# Altium footprint library capsmd.PcbLib: 33 footprints (part 1 of 3)
Each footprint in its own frame and in the unit in brackets; x right, y up, seen from the top. Pads: shape width x height; smd on the part's side, far side on the other; paste and mask are expansions set on the pad; w line width, h text height; cw(c..) or ccw(c..) is an arc to the next point about the centre after c.
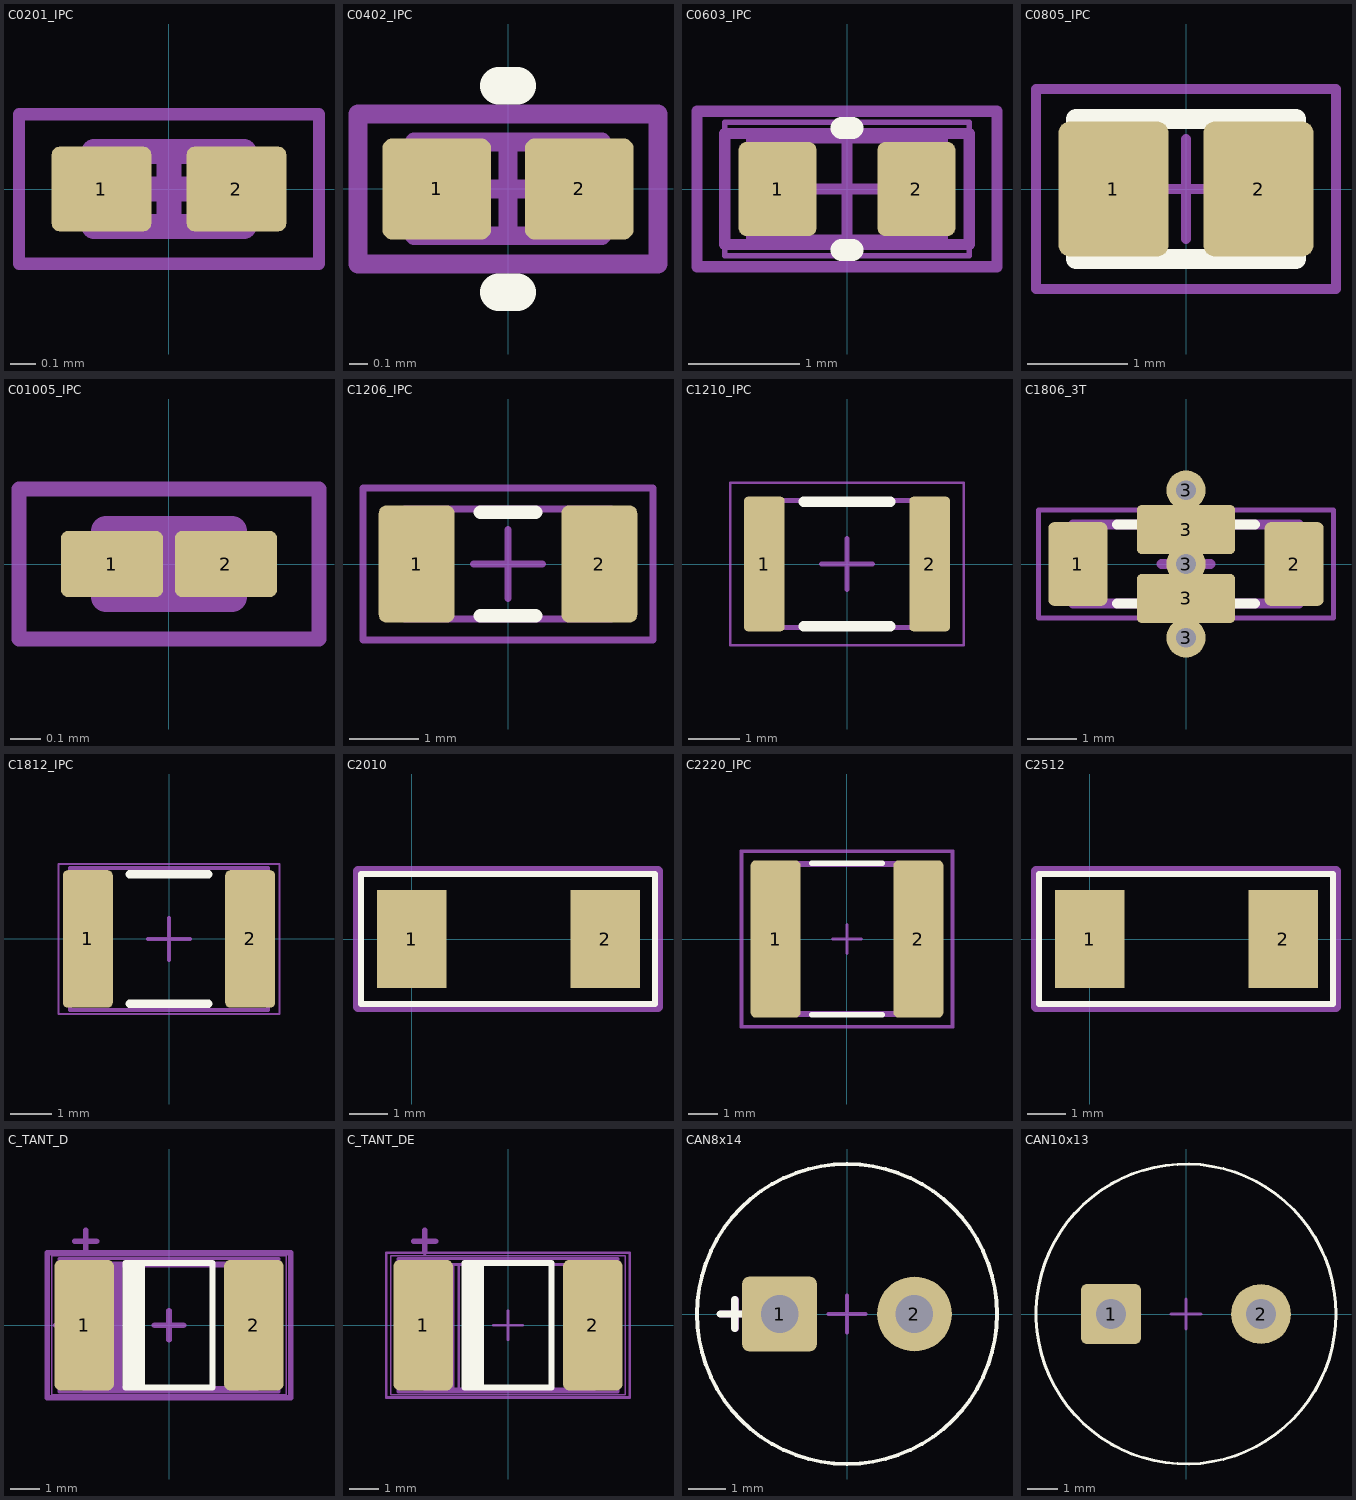
[diagram p0: the footprints below, top view; thin cyan lines are the x and y axes]

## C0201_IPC [mm] "Chip Capacitor, IPC High Density"
height 0.33
pads (2):
  rrect20% 0.4x0.34 smd mask+0.025: 1(-0.27,0) 2(0.27,0)
Mechanical 13:
  lines w0.1: -0.3,-0.15 0.3,-0.15 0.3,0.15 -0.3,0.15 -0.3,-0.15
Mechanical 15:
  lines w0.05: -0.6,-0.3 0.6,-0.3 0.6,0.3 -0.6,0.3 -0.6,-0.3
  lines w0.1: -0.15,0 0.15,0 ; 0,-0.15 0,0.15
3D body: height 0.33, standoff 0, extent 0.15,-0.15 0.3,0.15
3D body: height 0.33, standoff 0, extent -0.3,-0.15 -0.15,0.15
3D body: height 0.33, standoff 0, extent -0.15,-0.15 0.15,0.15

## C0402_IPC [mm] "Chip Capacitor, IPC High Density"
height 0.6
pads (2):
  rrect20% 0.58x0.54 smd mask+0.025: 1(-0.38,0) 2(0.38,0)
Top Overlay:
  lines w0.2: -0.05,-0.55 0.05,-0.55 ; -0.05,0.55 0.05,0.55
M3_comm_top:
  text ".comment" at -0.375,-0.275 h1
M5_asm_top:
  lines w0.1: -0.5,-0.25 0.5,-0.25 0.5,0.25 -0.5,0.25 -0.5,-0.25
  text ".Designator" at -0.5,0.5 h1
M7_courtyard_top:
  lines w0.1: -0.25,0 0.25,0 ; 0,-0.25 0,0.25 ; -0.8,-0.4 0.8,-0.4 0.8,0.4 -0.8,0.4 -0.8,-0.4
Mechanical 13:
  lines w0.1: -0.5,-0.25 -0.5,0.25 0.5,0.25 0.5,-0.25 -0.5,-0.25
Mechanical 15:
  lines w0.05: -0.8,-0.4 -0.8,0.4 0.8,0.4 0.8,-0.4 -0.8,-0.4
  lines w0.1: -0.25,0 0.25,0 ; 0,-0.25 0,0.25
3D body "Capacitor 0402.step": height 0.5, standoff 0, extent -0.5,-0.25 0.5,0.25

## C0603_IPC [mm] "IPC High Density"
height 0.92
pads (2):
  rrect20% 0.7x0.85 smd mask+0.05: 1(-0.625,0) 2(0.625,0)
Top Overlay:
  lines w0.2: -0.05,-0.55 0.05,-0.55 ; -0.05,0.55 0.05,0.55
M3_comm_top:
  text ".comment" at -0.9,-0.3 h1
M5_asm_top:
  lines w0.1: -1.1,-0.5 1.1,-0.5 1.1,0.5 -1.1,0.5 -1.1,-0.5
  text ".Designator" at -1,1.3 h1
M7_courtyard_top:
  lines w0.1: -0.5,0 0.5,0 ; 0,-0.5 0,0.5 ; -1.35,-0.7 1.35,-0.7 1.35,0.7 -1.35,0.7 -1.35,-0.7
Mechanical 13:
  lines w0.1: -0.86,-0.46 0.86,-0.46 0.86,0.46 -0.86,0.46 -0.86,-0.46
Mechanical 15:
  lines w0.05: -1.1,-0.6 1.1,-0.6 1.1,0.6 -1.1,0.6 -1.1,-0.6
  lines w0.1: -0.46,0 0.46,0 ; 0,-0.46 0,0.46
3D body "CAPC1608.STEP": height 0.9, standoff 0, extent -0.8,-0.4 0.8,0.4

## C0805_IPC [mm] "IPC High Density"
height 1.45
pads (2):
  rrect20% 1.1x1.35 smd mask+0.05: 1(-0.725,0) 2(0.725,0)
Top Overlay:
  lines w0.2: -1.1,-0.7 1.1,-0.7 1.1,0.7 -1.1,0.7 -1.1,-0.7
M3_comm_top:
  text ".comment" at -0.9,-0.3 h1
M5_asm_top:
  lines w0.1: -1.1,-0.7 -1.1,0.7 1.1,0.7 1.1,-0.7 -1.1,-0.7
  text ".Designator" at -0.975,1.15 h1
M7_courtyard_top:
  lines w0.1: -0.5,0 0.5,0 ; 0,-0.5 0,0.5 ; -1.5,-1 -1.5,1 1.5,1 1.5,-1 -1.5,-1
Mechanical 13:
  lines w0.1: -1.1,-0.725 1.1,-0.725 1.1,0.725 -1.1,0.725 -1.1,-0.725
3D body "User Library-0805 SMD Capacitor.step": height 0.78, standoff 0, extent -1,-0.625 1,0.625

## C01005_IPC [mm] "Chip Capacitor, IPC High Density"
height 0.15
pads (2):
  rrect20% 0.34x0.22 smd: 1(-0.19,0) 2(0.19,0)
Mechanical 13:
  lines w0.1: -0.21,-0.11 -0.21,0.11 0.21,0.11 0.21,-0.11 -0.21,-0.11
Mechanical 15:
  lines w0.05: -0.5,-0.25 -0.5,0.25 0.5,0.25 0.5,-0.25 -0.5,-0.25
  lines w0.1: -0.11,0 0.11,0 ; 0,-0.11 0,0.11
3D body: height 0.15, standoff 0, extent -0.11,-0.11 0.11,0.11
3D body: height 0.15, standoff 0, extent -0.21,-0.11 -0.11,0.11
3D body: height 0.15, standoff 0, extent 0.11,-0.11 0.21,0.11

## C1206_IPC [mm] "IPC High Density"
height 1.7
pads (2):
  rrect20% 1.1x1.7 smd mask+0.05: 1(-1.325,0) 2(1.325,0)
Top Overlay:
  lines w0.2: -0.4,-0.75 0.4,-0.75 ; -0.4,0.75 0.4,0.75
M3_comm_top:
  text ".comment" at -1.1,-0.3 h1
M5_asm_top:
  lines w0.1: -1.5,-0.8 -1.5,0.8 1.5,0.8 1.5,-0.8 -1.5,-0.8
  text ".Designator" at -1,1.3 h1
M7_courtyard_top:
  lines w0.1: -0.5,0 0.5,0 ; 0,-0.5 0,0.5 ; -2.1,-1.1 2.1,-1.1 2.1,1.1 -2.1,1.1 -2.1,-1.1
3D body "User Library-1206 SMD Capacitor.step": height 1.01, standoff 0.01, extent -1.6,-0.8 1.6,0.8

## C1210_IPC [mm] "IPC Medium Density"
height 2.5
pads (2):
  rrect20% 0.8x2.65 smd mask+0.05: 1(-1.625,0) 2(1.625,0)
Top Overlay:
  lines w0.2: -0.85,-1.225 0.85,-1.225 ; -0.85,1.225 0.85,1.225
Mechanical 13:
  lines w0.1: -1.6,-1.25 -1.6,1.25 1.6,1.25 1.6,-1.25 -1.6,-1.25
Mechanical 15:
  lines w0.05: -2.3,-1.6 -2.3,1.6 2.3,1.6 2.3,-1.6 -2.3,-1.6
  lines w0.1: -0.5,0 0.5,0 ; 0,-0.5 0,0.5
3D body "C1210.step": height 2.5, standoff 0, extent -1.6,-1.25 1.6,1.25

## C1806_3T [mm] "NFM41PC155B1H3L"
height 1.7
pads (7):
  rrect20% 1.2x1.7 smd mask+0.05: 1(-2.2,0) 2(2.2,0)
  round 0.8 hole 0.4: 3(0,-1.5) 3(0,0) 3(0,1.5)
  rrect20% 2x1 smd mask+0.05: 3(0,-0.7) 3(0,0.7)
Top Overlay:
  lines w0.2: -1.4,-0.8 1.4,-0.8 ; -1.4,0.8 1.4,0.8
M3_comm_top:
  text ".comment" at -1.1,-0.3 h1
M5_asm_top:
  lines w0.2: -2.3,-0.8 -2.3,0.8 2.3,0.8 2.3,-0.8 -2.3,-0.8
  text ".Designator" at -1,1.3 h1
M7_courtyard_top:
  lines w0.1: -3,-1.1 3,-1.1 3,1.1 -3,1.1 -3,-1.1
  lines w0.2: -0.5,0 0.5,0 ; 0,-0.5 0,0.5
3D body "User Library-NFM41C-1806.step": height 1, standoff 0, extent -2.25,-0.8 2.25,0.8

## C1812_IPC [mm] "IPC High Density"
height 2.18
pads (2):
  rrect20% 1.2x3.3 smd: 1(-1.95,0) 2(1.95,0)
Top Overlay:
  lines w0.2: -0.95,-1.55 0.95,-1.55 ; -0.95,1.55 0.95,1.55
Mechanical 13:
  lines w0.1: -2.375,-1.7 2.375,-1.7 2.375,1.7 -2.375,1.7 -2.375,-1.7
Mechanical 15:
  lines w0.05: -2.65,-1.8 2.65,-1.8 2.65,1.8 -2.65,1.8 -2.65,-1.8
  lines w0.1: -0.5,0 0.5,0 ; 0,-0.5 0,0.5
3D body: height 2.18, standoff 0, extent 1.865,-1.7 2.375,1.7
3D body: height 2.18, standoff 0, extent -2.375,-1.7 -1.865,1.7
3D body: height 2.18, standoff 0, extent -1.865,-1.7 1.865,1.7

## C2010 [mil]
height 1
pads (2):
  rect 72x102 smd: 1(0,0) 2(201,0)
Top Overlay:
  lines w6: -52.5,-67.5 -52.5,67.5 252.5,67.5 252.5,-67.5 -52.5,-67.5
M1_3D_TOP:
  lines w6: -52.5,-67.5 -52.5,67.5 252.5,67.5 252.5,-67.5 -52.5,-67.5
  lines w10: -55.5,-70.5 255.5,-70.5 255.5,70.5 -55.5,70.5 -55.5,-70.5
3D body "R2010-1.step": height 21.65, standoff 0, extent 2.96,-49.6 199.81,49.61

## C2220_IPC [mm] "Chip Capacitor, IPC Medium Density"
height 2.8
pads (2):
  rrect20% 1.7x5.35 smd: 1(-2.425,0) 2(2.425,0)
Top Overlay:
  lines w0.2: -1.2,-2.575 1.2,-2.575 ; -1.2,2.575 1.2,2.575
M3_comm_top:
  text ".comment" at -1.1,-0.3 h1
M5_asm_top:
  lines w0.1: -2.5,-2.5 2.5,-2.5 2.5,2.5 -2.5,2.5 -2.5,-2.5
  text ".Designator" at -1.6,2.9 h1
M7_courtyard_top:
  lines w0.1: -0.5,0 0.5,0 ; 0,-0.5 0,0.5 ; -3.6,-3 -3.6,3 3.6,3 3.6,-3 -3.6,-3
Mechanical 13:
  lines w0.1: -2.85,-2.6 2.85,-2.6 2.85,2.6 -2.85,2.6 -2.85,-2.6
Mechanical 15:
  lines w0.05: -3.55,-2.95 3.55,-2.95 3.55,2.95 -3.55,2.95 -3.55,-2.95
  lines w0.1: -0.5,0 0.5,0 ; 0,-0.5 0,0.5
3D body "User Library-2220_[5650].step": height 2.05, standoff 0, extent -2.406,-2.5 2.406,2.501

## C2512 [mil]
height 1
pads (2):
  rect 72x102 smd: 1(0,0) 2(201,0)
Top Overlay:
  lines w6: -52.5,-67.5 -52.5,67.5 252.5,67.5 252.5,-67.5 -52.5,-67.5
M1_3D_TOP:
  lines w6: -52.5,-67.5 -52.5,67.5 252.5,67.5 252.5,-67.5 -52.5,-67.5
  lines w10: -55.5,-70.5 255.5,-70.5 255.5,70.5 -55.5,70.5 -55.5,-70.5
3D body "R2010-1.step": height 21.65, standoff 0, extent 2.96,-49.6 199.81,49.61

## C_TANT_D [mm] "IPC High Density"
height 4
pads (2):
  rrect20% 2.05x4.5 smd mask+0.05: 1(-2.925,0) 2(2.925,0)
Top Overlay:
  lines w0.2: -1.325,-2.15 -1.325,2.15 ; -1.125,2.15 -1.125,-2.15 -1.5,-2.15 ; -0.925,-2.15 -0.925,2.15 ; -1.5,-2.15 -1.5,-2.15 ; -1.5,-2.15 -1.5,2.15 1.5,2.15 1.5,-2.15 -1.5,-2.15
M3_comm_top:
  text ".comment" at -0.9,-0.3 h1
M5_asm_top:
  lines w0.2: -3.9,0 -3.3,0 ; -3.6,-0.3 -3.6,0.3 ; -2.7,-2.2 -2.7,2.1 ; -2.5,-2.2 -2.5,2.1 ; -2.3,-2.2 -2.3,2.1 ; -2.1,-2.2 -2.1,2.1 ; -1.9,-2.2 -1.9,2.1 ; -1.7,-2.2 -1.7,2.1 ; -2.9,-2.2 -2.9,2.1 3,2.1 3,-2.2 -2.9,-2.2
  text ".Designator" at -1,2.7 h1
M7_courtyard_top:
  lines w0.2: -0.5,0 0.5,0 ; 0,-0.5 0,0.5 ; -4.2,-2.5 4.2,-2.5 4.2,2.5 -4.2,2.5 -4.2,-2.5
Mechanical 13:
  lines w0.1: -3.8,-2.3 3.8,-2.3 3.8,2.3 -3.8,2.3 -3.8,-2.3
  lines w0.2: -3.25,2.9 -2.5,2.9 ; -2.875,2.525 -2.875,3.275
Mechanical 15:
  lines w0.05: -4.05,-2.4 4.05,-2.4 4.05,2.4 -4.05,2.4 -4.05,-2.4
  lines w0.1: -0.5,0 0.5,0 ; 0,-0.5 0,0.5
3D body "593D D-CASE.stp": height 2.92, standoff 0, extent -3.594,-2.2 3.594,2.216

## C_TANT_DE [mm] "IPC High Density"
height 4
pads (2):
  rrect20% 2.05x4.5 smd mask+0.05: 1(-2.925,0) 2(2.925,0)
Top Overlay:
  lines w0.2: -1.325,-2.15 -1.325,2.15 ; -1.125,2.15 -1.125,-2.15 -1.5,-2.15 ; -0.925,-2.15 -0.925,2.15 ; -1.5,-2.15 1.5,-2.15 1.5,2.15 -1.5,2.15 -1.5,-2.15 ; -1.5,-2.15 -1.5,-2.15
M3_comm_top:
  text ".comment" at -0.9,-0.3 h1
M5_asm_top:
  lines w0.1: -3.9,0 -3.3,0 ; -3.6,-0.3 -3.6,0.3 ; -2.7,-2.2 -2.7,2.1 ; -2.5,-2.2 -2.5,2.1 ; -2.3,-2.2 -2.3,2.1 ; -2.1,-2.2 -2.1,2.1 ; -1.9,-2.2 -1.9,2.1 ; -1.7,-2.2 -1.7,2.1 ; -2.9,-2.2 3,-2.2 3,2.1 -2.9,2.1 -2.9,-2.2
  text ".Designator" at -1,2.7 h1
M7_courtyard_top:
  lines w0.1: -0.5,0 0.5,0 ; 0,-0.5 0,0.5 ; -4.2,-2.5 -4.2,2.5 4.2,2.5 4.2,-2.5 -4.2,-2.5
Mechanical 13:
  lines w0.1: -3.8,-2.3 -3.8,2.3 3.8,2.3 3.8,-2.3 -3.8,-2.3
  lines w0.2: -3.25,2.9 -2.5,2.9 ; -2.875,2.525 -2.875,3.275
Mechanical 15:
  lines w0.05: -4.05,-2.4 -4.05,2.4 4.05,2.4 4.05,-2.4 -4.05,-2.4
  lines w0.1: -0.5,0 0.5,0 ; 0,-0.5 0,0.5
3D body "AVX_E_CASE.step": height 4.2, standoff 0, extent -3.7,-2.225 3.701,2.225

## CAN8x14 [mm] "IPC High Density"
height 4
pads (2):
  rrect20% 2x2 hole 1: 1(-1.8,0)
  round 2 hole 1: 2(1.8,0)
Top Overlay:
  circle w0.1: c0,0 r4
  lines w0.2: -3.375,0 -2.625,0 ; -3,-0.375 -3,0.375
Mechanical 13:
  lines w0.2: -3.35,0 -2.6,0 ; -2.975,-0.375 -2.975,0.375
Mechanical 15:
  lines w0.1: -0.5,0 0.5,0 ; 0,-0.5 0,0.5
3D body "Cap-EL(8x14-3_5).step": height 14, standoff -3.3, extent -4,-4 4.002,4

## CAN10x13 [mm] "IPC High Density"
height 4
pads (2):
  rrect20% 2x2 hole 1: 1(-2.5,0)
  round 2 hole 1: 2(2.5,0)
Top Overlay:
  circle w0.1: c0,0 r5
  lines w0.2: -3.375,0 -2.625,0 ; -3,-0.375 -3,0.375
Mechanical 13:
  lines w0.2: -3.35,0 -2.6,0 ; -2.975,-0.375 -2.975,0.375
Mechanical 15:
  lines w0.1: -0.5,0 0.5,0 ; 0,-0.5 0,0.5
3D body "Cap electrolitic radial 10x13.STEP": height 13.8, standoff -0.7, extent -4.998,-4.994 4.998,4.999